# Altium footprint library ADA4961.PcbLib: 1 footprints
Each footprint in its own frame and in the unit in brackets; x right, y up, seen from the top. Pads: shape width x height; smd on the part's side, far side on the other; paste and mask are expansions set on the pad; w line width, h text height; cw(c..) or ccw(c..) is an arc to the next point about the centre after c.
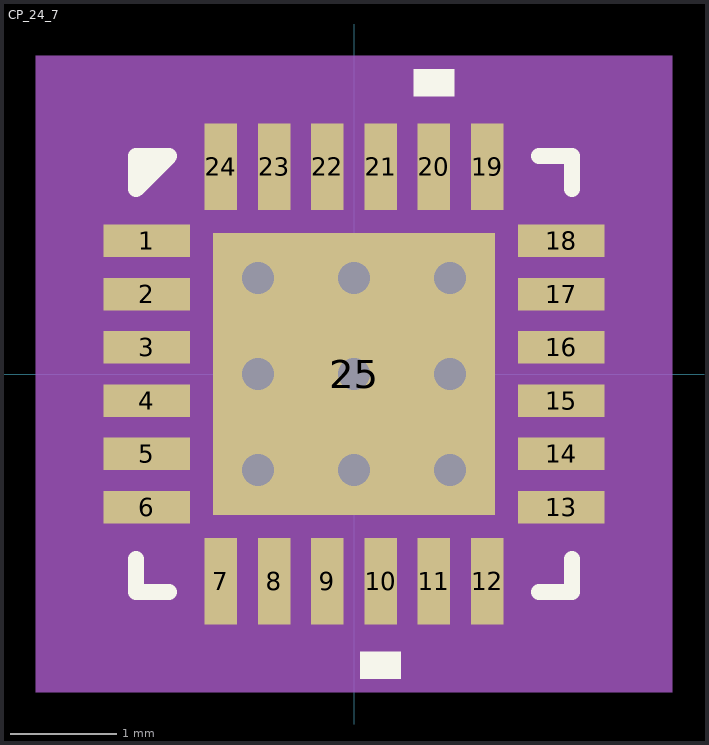
[diagram p0: the footprint, top view; thin cyan lines are the x and y axes]

## CP_24_7 [mil]
pads (25):
  rect 32x12 smd mask+5: 1(-76.5,49.21) 2(-76.5,29.53) 3(-76.5,9.84) 4(-76.5,-9.84) 5(-76.5,-29.53) 6(-76.5,-49.21) 13(76.5,-49.21) 14(76.5,-29.53) 15(76.5,-9.84) 16(76.5,9.84) 17(76.5,29.53) 18(76.5,49.21)
  rect 12x32 smd mask+5: 7(-49.21,-76.5) 8(-29.53,-76.5) 9(-9.84,-76.5) 10(9.84,-76.5) 11(29.53,-76.5) 12(49.21,-76.5) 19(49.21,76.5) 20(29.53,76.5) 21(9.84,76.5) 22(-9.84,76.5) 23(-29.53,76.5) 24(-49.21,76.5)
  rect 104x104 smd: 25(0,0)
via -35.43,-35.43 diameter 23.62 hole 11.81
via 0,-35.43 diameter 23.62 hole 11.81
via 35.43,-35.43 diameter 23.62 hole 11.81
via 35.43,0 diameter 23.62 hole 11.81
via 35.43,35.43 diameter 23.62 hole 11.81
via 0,35.43 diameter 23.62 hole 11.81
via -35.43,35.43 diameter 23.62 hole 11.81
via -35.43,0 diameter 23.62 hole 11.81
via 0,0 diameter 23.62 hole 11.81
Top Overlay:
  region: -80.5,80.5 -80.5,68.31 -68.31,80.5
  region: 37.03,102.5 22.03,102.5 22.03,112.5 37.03,112.5
  region: 17.34,-102.5 2.34,-102.5 2.34,-112.5 17.34,-112.5
  lines w6: -80.5,-68.31 -80.5,-80.5 -68.31,-80.5 ; 68.31,-80.5 80.5,-80.5 80.5,-68.31 ; 68.31,80.5 80.5,80.5 80.5,68.31 ; -80.5,68.31 -68.31,80.5 -80.5,80.5 -80.5,68.31
Mechanical 5:
  region: 117.5,-117.5 -117.5,-117.5 -117.5,117.5 117.5,117.5
Mechanical 13:
  lines w1: -80.5,30.5 -30.5,80.5 ; -80.5,-80.5 -80.5,80.5 80.5,80.5 80.5,-80.5 -80.5,-80.5 ; -80.5,-55.21 -80.5,-43.21 -80.5,-55.21 ; -80.5,-35.53 -80.5,-23.53 -80.5,-35.53 ; -80.5,-15.84 -80.5,-3.84 -80.5,-15.84 ; -80.5,3.84 -80.5,15.84 -80.5,3.84 ; -80.5,23.53 -80.5,35.53 -80.5,23.53 ; -80.5,43.21 -80.5,55.21 -80.5,43.21 ; -55.21,-80.5 -43.21,-80.5 -55.21,-80.5 ; -55.21,80.5 -43.21,80.5 -55.21,80.5 ; -35.53,-80.5 -23.53,-80.5 -35.53,-80.5 ; -35.53,80.5 -23.53,80.5 -35.53,80.5 ; -15.84,-80.5 -3.84,-80.5 -15.84,-80.5 ; -15.84,80.5 -3.84,80.5 -15.84,80.5 ; 3.84,-80.5 15.84,-80.5 3.84,-80.5 ; 3.84,80.5 15.84,80.5 3.84,80.5 ; 23.53,-80.5 35.53,-80.5 23.53,-80.5 ; 23.53,80.5 35.53,80.5 23.53,80.5 ; 43.21,-80.5 55.21,-80.5 43.21,-80.5 ; 43.21,80.5 55.21,80.5 43.21,80.5 ; 80.5,-55.21 80.5,-43.21 80.5,-55.21 ; 80.5,-35.53 80.5,-23.53 80.5,-35.53 ; 80.5,-15.84 80.5,-3.84 80.5,-15.84 ; 80.5,3.84 80.5,15.84 80.5,3.84 ; 80.5,23.53 80.5,35.53 80.5,23.53 ; 80.5,43.21 80.5,55.21 80.5,43.21
Mechanical 15:
  region: 102.5,-102.5 -102.5,-102.5 -102.5,102.5 102.5,102.5
  lines w6: -102.5,-102.5 102.5,-102.5 102.5,102.5 -102.5,102.5 -102.5,-102.5
3D body "CP_24_7.step": height 31.1, standoff 0, extent -80.5,-80.51 80.52,80.52